# EAGLE library part TEZ_16 (library tez_16_transformer)
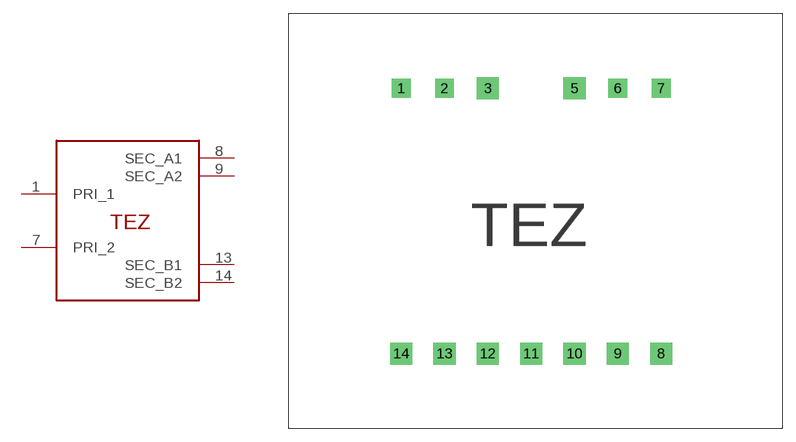
[diagram p0: symbol with the pads of TEZ_16; footprint TEZ_16]

Designator prefix -

## TEZ_16THROUGH_HOLE  [TEZ_16]
1  PRI_1
7  PRI_2
8  SEC_A1
9  SEC_A2
13  SEC_B1
14  SEC_B2

## Footprint TEZ_16 (pad centres in mm)
drill 0.8 pad 2.184 square: 1 -14.7,17.7; 2 -9.7,17.7; 6 10.3,17.7; 7 15.3,17.7
drill 0.8 pad 2.54 square: 3 -4.7,17.7; 5 5.3,17.7; 8 15.3,-12.9; 9 10.3,-12.9; 10 5.3,-12.9; 11 0.3,-12.9; 12 -4.7,-12.9; 13 -9.7,-12.9; 14 -14.7,-12.9